# EAGLE library part TLV3501 (library wg_library)
TLV350x 4.5-ns, Rail-to-Rail, High-Speed Comparator in Microsize Packages Source: https://www.ti.com/lit/ds/symlink/tlv3501.pdf
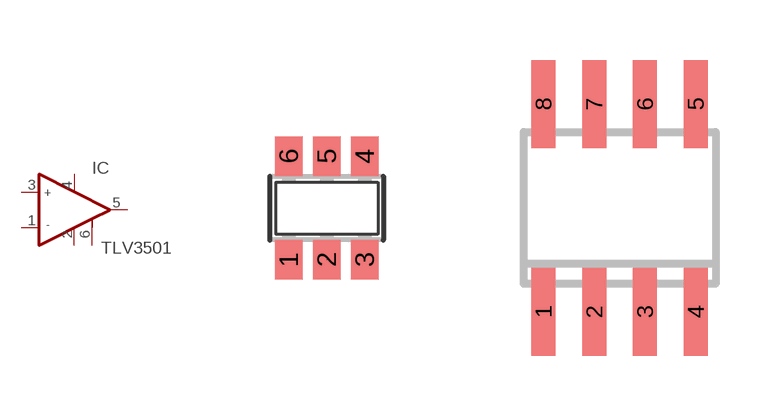
[diagram p8: symbol with the pads of SOT23-6; footprints SOT23-6, SO8]

Designator prefix IC

## TLV3501DBV  [SOT23-6]
1  -IN  in
2  V-  pwr
3  +IN  in
4  V+  pwr
5  OUT  out
6  SHDN  in

## TLV3501D  [SO8]
2  -IN  in
3  +IN  in
4  V-  pwr
6  OUT  out
7  V+  pwr
8  SHDN  in

## Footprint SOT23-6 (pad centres in mm)
smd 0.69 x 0.99: 1 -0.95,-1.29; 2 0,-1.29; 3 0.95,-1.29; 4 0.95,1.3; 5 0,1.3; 6 -0.95,1.3

## Footprint SO8 (pad centres in mm)
smd 0.6 x 2.2: 1 -1.905,-2.6; 2 -0.635,-2.6; 3 0.635,-2.6; 4 1.905,-2.6; 5 1.905,2.6; 6 0.635,2.6; 7 -0.635,2.6; 8 -1.905,2.6